# EAGLE library part MPL3115A2 (library MPL3115A2)
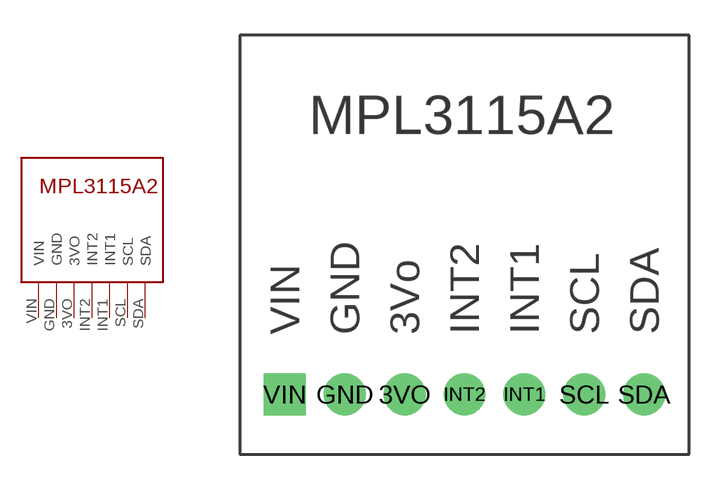
[diagram p0: symbol with the pads of MPL3115A2; footprint MPL3115A2]

Designator prefix -

## MPL3115A2  [MPL3115A2]
3VO  3VO
GND  GND
INT1  INT1
INT2  INT2
SCL  SCL
SDA  SDA
VIN  VIN

## Footprint MPL3115A2 (pad centres in mm)
drill 1.016 pad 1.778: 3VO 6.985,2.54; GND 4.445,2.54; INT1 12.065,2.54; INT2 9.525,2.54; SCL 14.605,2.54; SDA 17.145,2.54
drill 1.016 pad 1.778 square: VIN 1.905,2.54